# EAGLE library part CY8C4245 (library mathrax)
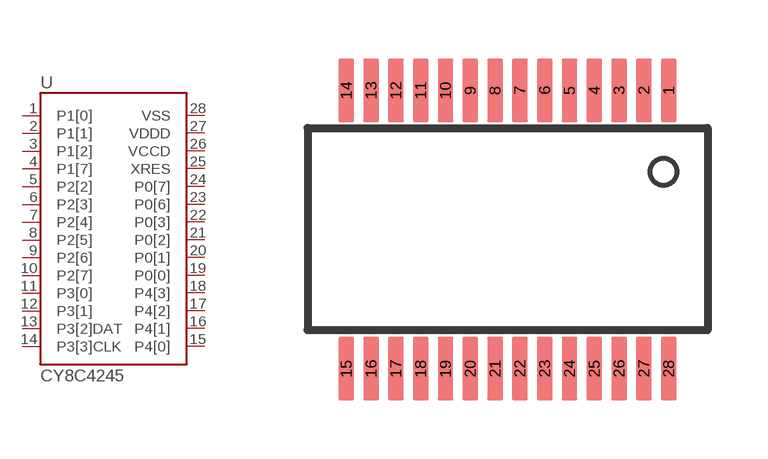
[diagram p4: symbol with the pads of 28PIN_SSOP; footprint 28PIN_SSOP]

Designator prefix -

## CY8C4245  [28PIN_SSOP]
1  P1[0]
2  P1[1]
3  P1[2]
4  P1[7]
5  P2[2]
6  P2[3]
7  P2[4]
8  P2[5]
9  P2[6]
10  P2[7]
11  P3[0]
12  P3[1]
13  P3[2]DAT
14  P3[3]CLK
15  P4[0]
16  P4[1]
17  P4[2]
18  P4[3]
19  P0[0]
20  P0[1]
21  P0[2]
22  P0[3]
23  P0[6]
24  P0[7]
25  XRES
26  VCCD
27  VDDD
28  VSS

## Footprint 28PIN_SSOP (pad centres in mm)
smd 0.4 x 1.6: 1 4.03,3.47; 2 3.41,3.47; 3 2.79,3.47; 4 2.17,3.47; 5 1.55,3.47; 6 0.93,3.47; 7 0.31,3.47; 8 -0.31,3.47; 9 -0.93,3.47; 10 -1.55,3.47; 11 -2.17,3.47; 12 -2.79,3.47; 13 -3.41,3.47; 14 -4.03,3.47; 15 -4.03,-3.496; 16 -3.41,-3.496; 17 -2.79,-3.496; 18 -2.17,-3.496; 19 -1.55,-3.496; 20 -0.93,-3.496; 21 -0.31,-3.496; 22 0.31,-3.496; 23 0.93,-3.496; 24 1.55,-3.496; 25 2.17,-3.496; 26 2.79,-3.496; 27 3.41,-3.496; 28 4.03,-3.496